# Altium schematic symbol library SCH - MCU - STM32 - ST MICROELECTRONICS STM32F303C(B-C)TX LQFP48.SchLib: 1 symbol
Pins are listed as number, name and electrical type; pins without a type are passive.

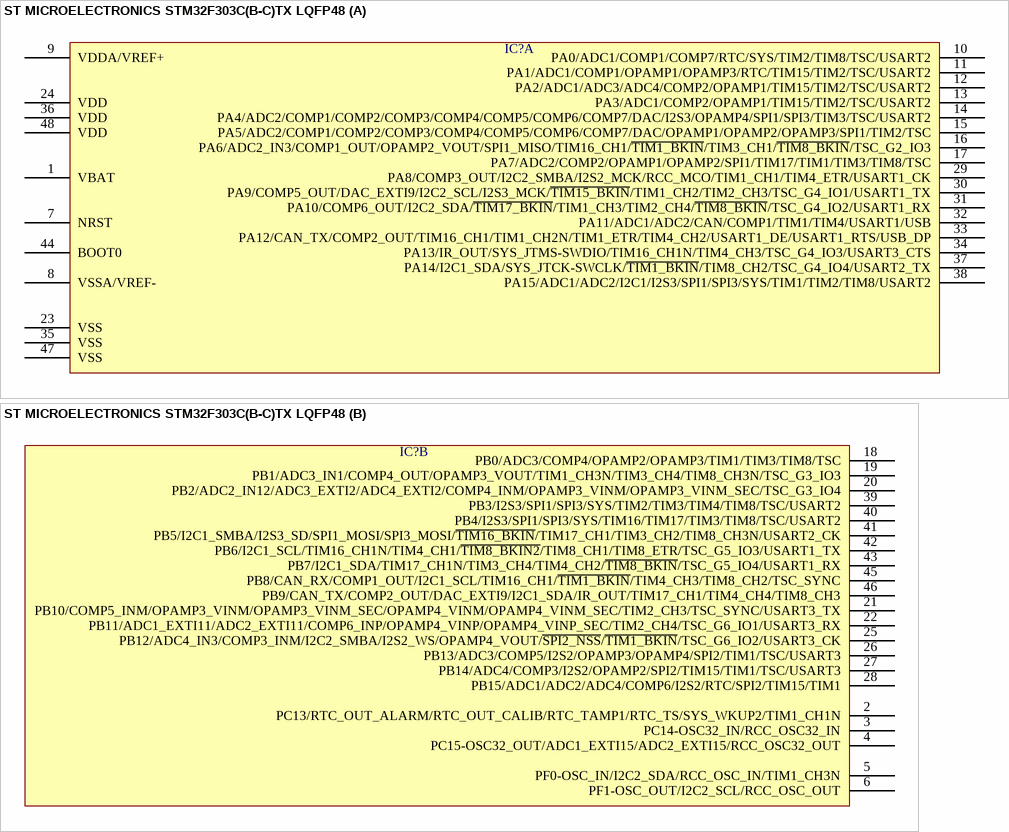
[diagram p0: symbol ST MICROELECTRONICS STM32F303C(B-C)TX LQFP48]

## ST MICROELECTRONICS STM32F303C(B-C)TX LQFP48
designator IC?  (value not drawn)
part A pins: 1 VBAT, 7 NRST, 8 VSSA/VREF-, 9 VDDA/VREF+, 10 PA0/ADC1/COMP1/COMP7/RTC/SYS/TIM2/TIM8/TSC/USART2, 11 PA1/ADC1/COMP1/OPAMP1/OPAMP3/RTC/TIM15/TIM2/TSC/USART2, 12 PA2/ADC1/ADC3/ADC4/COMP2/OPAMP1/TIM15/TIM2/TSC/USART2, 13 PA3/ADC1/COMP2/OPAMP1/TIM15/TIM2/TSC/USART2, 14 PA4/ADC2/COMP1/COMP2/COMP3/COMP4/COMP5/COMP6/COMP7/DAC/I2S3/OPAMP4/SPI1/SPI3/TIM3/TSC/USART2, 15 PA5/ADC2/COMP1/COMP2/COMP3/COMP4/COMP5/COMP6/COMP7/DAC/OPAMP1/OPAMP2/OPAMP3/SPI1/TIM2/TSC, 16 PA6/ADC2_IN3/COMP1_OUT/OPAMP2_VOUT/SPI1_MISO/TIM16_CH1/~{TIM1_BKIN}/TIM3_CH1/~{TIM8_BKIN}/TSC_G2_IO3, 17 PA7/ADC2/COMP2/OPAMP1/OPAMP2/SPI1/TIM17/TIM1/TIM3/TIM8/TSC, 23 VSS, 24 VDD, 29 PA8/COMP3_OUT/I2C2_SMBA/I2S2_MCK/RCC_MCO/TIM1_CH1/TIM4_ETR/USART1_CK, 30 PA9/COMP5_OUT/DAC_EXTI9/I2C2_SCL/I2S3_MCK/~{TIM15_BKIN}/TIM1_CH2/TIM2_CH3/TSC_G4_IO1/USART1_TX, 31 PA10/COMP6_OUT/I2C2_SDA/~{TIM17_BKIN}/TIM1_CH3/TIM2_CH4/~{TIM8_BKIN}/TSC_G4_IO2/USART1_RX, 32 PA11/ADC1/ADC2/CAN/COMP1/TIM1/TIM4/USART1/USB, 33 PA12/CAN_TX/COMP2_OUT/TIM16_CH1/TIM1_CH2N/TIM1_ETR/TIM4_CH2/USART1_DE/USART1_RTS/USB_DP, 34 PA13/IR_OUT/SYS_JTMS-SWDIO/TIM16_CH1N/TIM4_CH3/TSC_G4_IO3/USART3_CTS, 35 VSS, 36 VDD, 37 PA14/I2C1_SDA/SYS_JTCK-SWCLK/~{TIM1_BKIN}/TIM8_CH2/TSC_G4_IO4/USART2_TX, 38 PA15/ADC1/ADC2/I2C1/I2S3/SPI1/SPI3/SYS/TIM1/TIM2/TIM8/USART2, 44 BOOT0, 47 VSS, 48 VDD
part B pins: 2 PC13/RTC_OUT_ALARM/RTC_OUT_CALIB/RTC_TAMP1/RTC_TS/SYS_WKUP2/TIM1_CH1N, 3 PC14-OSC32_IN/RCC_OSC32_IN, 4 PC15-OSC32_OUT/ADC1_EXTI15/ADC2_EXTI15/RCC_OSC32_OUT, 5 PF0-OSC_IN/I2C2_SDA/RCC_OSC_IN/TIM1_CH3N, 6 PF1-OSC_OUT/I2C2_SCL/RCC_OSC_OUT, 18 PB0/ADC3/COMP4/OPAMP2/OPAMP3/TIM1/TIM3/TIM8/TSC, 19 PB1/ADC3_IN1/COMP4_OUT/OPAMP3_VOUT/TIM1_CH3N/TIM3_CH4/TIM8_CH3N/TSC_G3_IO3, 20 PB2/ADC2_IN12/ADC3_EXTI2/ADC4_EXTI2/COMP4_INM/OPAMP3_VINM/OPAMP3_VINM_SEC/TSC_G3_IO4, 21 PB10/COMP5_INM/OPAMP3_VINM/OPAMP3_VINM_SEC/OPAMP4_VINM/OPAMP4_VINM_SEC/TIM2_CH3/TSC_SYNC/USART3_TX, 22 PB11/ADC1_EXTI11/ADC2_EXTI11/COMP6_INP/OPAMP4_VINP/OPAMP4_VINP_SEC/TIM2_CH4/TSC_G6_IO1/USART3_RX, 25 PB12/ADC4_IN3/COMP3_INM/I2C2_SMBA/I2S2_WS/OPAMP4_VOUT/~{SPI2_NSS}/~{TIM1_BKIN}/TSC_G6_IO2/USART3_CK, 26 PB13/ADC3/COMP5/I2S2/OPAMP3/OPAMP4/SPI2/TIM1/TSC/USART3, 27 PB14/ADC4/COMP3/I2S2/OPAMP2/SPI2/TIM15/TIM1/TSC/USART3, 28 PB15/ADC1/ADC2/ADC4/COMP6/I2S2/RTC/SPI2/TIM15/TIM1, 39 PB3/I2S3/SPI1/SPI3/SYS/TIM2/TIM3/TIM4/TIM8/TSC/USART2, 40 PB4/I2S3/SPI1/SPI3/SYS/TIM16/TIM17/TIM3/TIM8/TSC/USART2, 41 PB5/I2C1_SMBA/I2S3_SD/SPI1_MOSI/SPI3_MOSI/~{TIM16_BKIN}/TIM17_CH1/TIM3_CH2/TIM8_CH3N/USART2_CK, 42 PB6/I2C1_SCL/TIM16_CH1N/TIM4_CH1/~{TIM8_BKIN2}/TIM8_CH1/TIM8_ETR/TSC_G5_IO3/USART1_TX, 43 PB7/I2C1_SDA/TIM17_CH1N/TIM3_CH4/TIM4_CH2/~{TIM8_BKIN}/TSC_G5_IO4/USART1_RX, 45 PB8/CAN_RX/COMP1_OUT/I2C1_SCL/TIM16_CH1/~{TIM1_BKIN}/TIM4_CH3/TIM8_CH2/TSC_SYNC, 46 PB9/CAN_TX/COMP2_OUT/DAC_EXTI9/I2C1_SDA/IR_OUT/TIM17_CH1/TIM4_CH4/TIM8_CH3